# EAGLE library part CS5343 (library Strutz Electronic Industries)
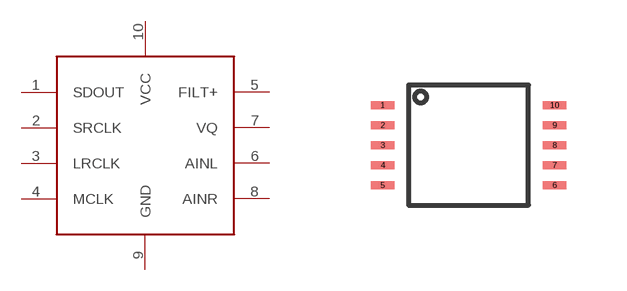
[diagram p21: symbol with the pads of TSSOP-10; footprint TSSOP-10]

Designator prefix -

## CS5343  [TSSOP-10]
1  SDOUT
2  SRCLK
3  LRCLK
4  MCLK
5  FILT+
6  AINL
7  VQ
8  AINR
9  GND
10  VCC

## Footprint TSSOP-10 (pad centres in mm)
smd 0.6 x 0.2: 1 -2.15,1; 2 -2.15,0.5; 3 -2.15,0; 4 -2.15,-0.5; 5 -2.15,-1; 6 2.15,-1; 7 2.15,-0.5; 8 2.15,0; 9 2.15,0.5; 10 2.15,1